# EAGLE library part 7S_DISPLAY (library ECE532_Parts)
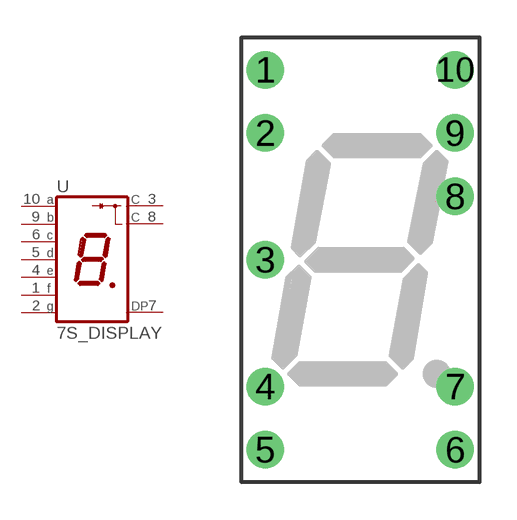
[diagram p2: symbol with the pads of 7S_DISPLAY; footprint 7S_DISPLAY]

Designator prefix -

## 7S_DISPLAY  [7S_DISPLAY]
1  F  pas
2  G  pas
3  C  pas
4  E  pas
5  D  pas
6  C  pas
7  DP  pas
8  C  pas
9  B  pas
10  A  pas

## Footprint 7S_DISPLAY (pad centres in mm)
drill 0.9 pad 1.5: 1 -1.27,7.62; 2 -1.27,5.08; 3 -1.27,0; 4 -1.27,-5.08; 5 -1.27,-7.62; 6 6.35,-7.62; 7 6.35,-5.08; 8 6.35,2.54; 9 6.35,5.08; 10 6.35,7.62